# Altium footprint library Trans_pcb.PcbLib: 72 footprints (part 3 of 5)
Each footprint in its own frame and in the unit in brackets; x right, y up, seen from the top. Pads: shape width x height; smd on the part's side, far side on the other; paste and mask are expansions set on the pad; w line width, h text height; cw(c..) or ccw(c..) is an arc to the next point about the centre after c.
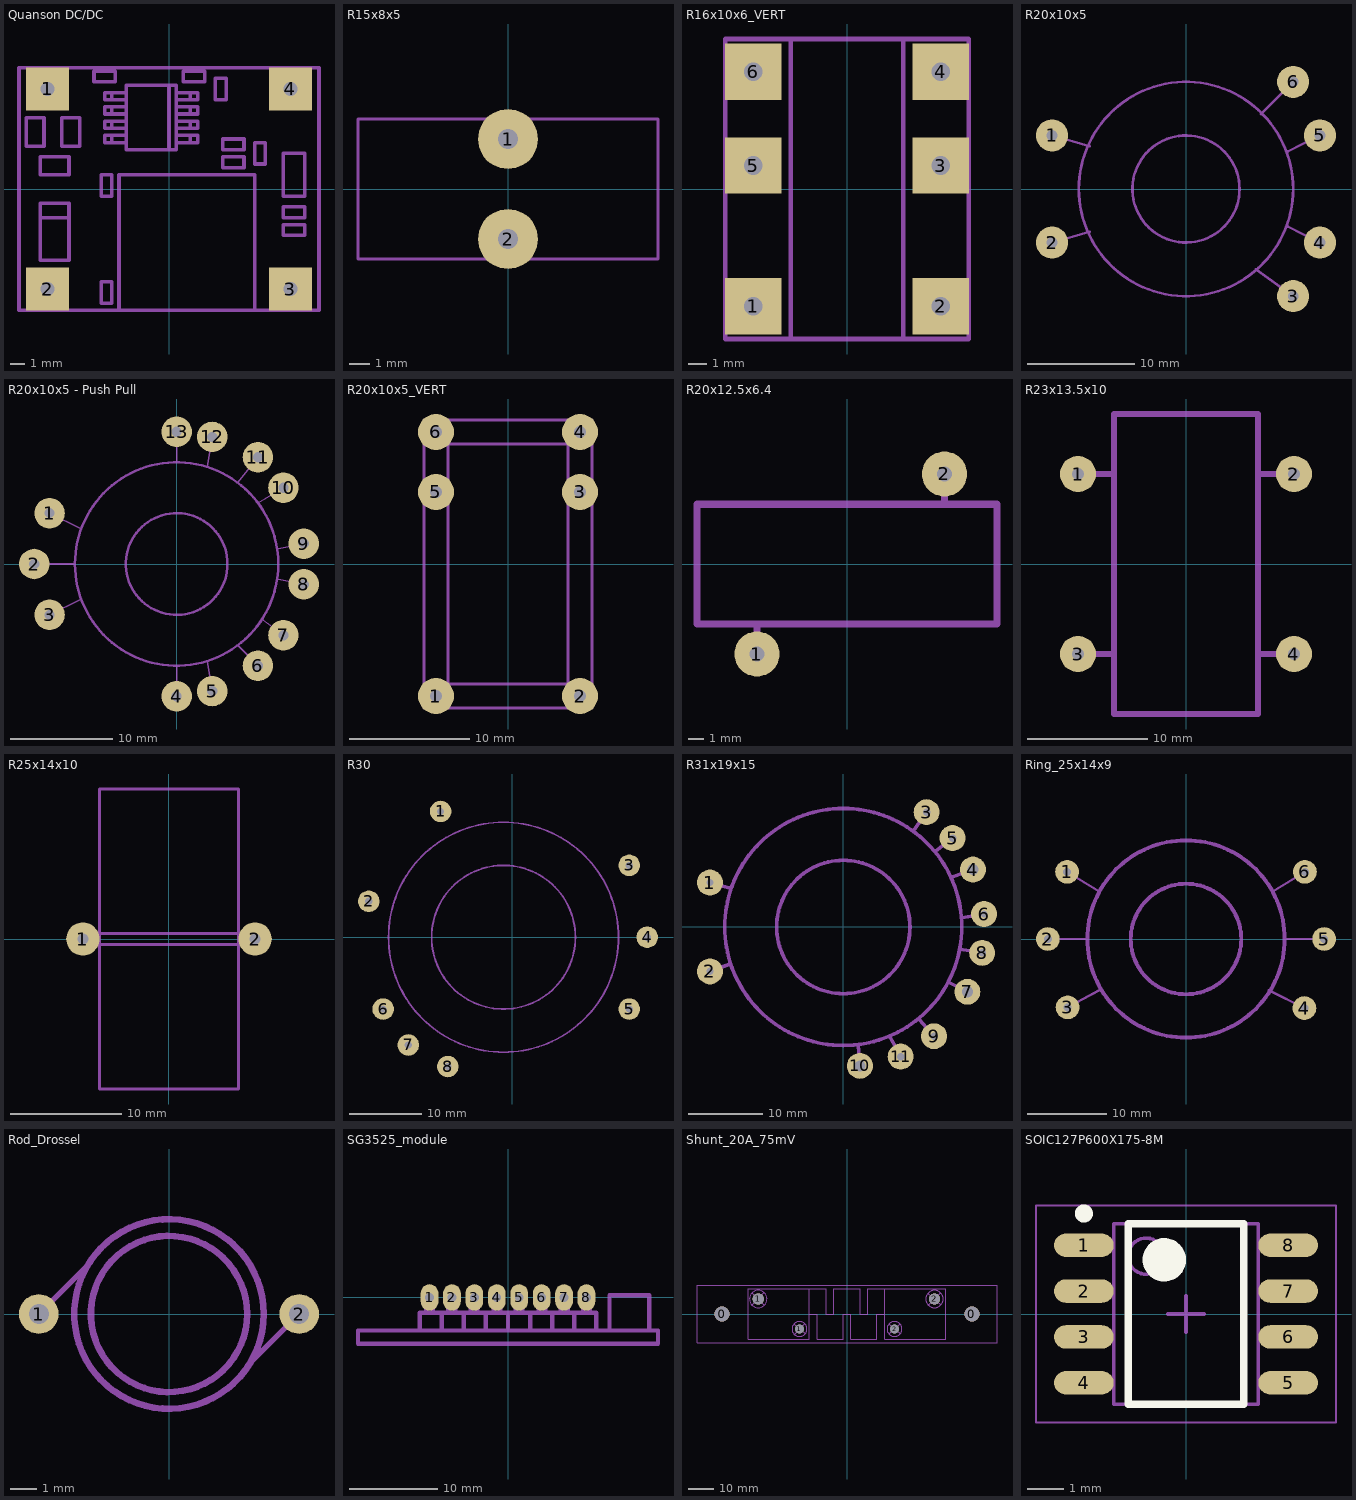
[diagram p2: the footprints below, top view; thin cyan lines are the x and y axes]

## Quanson DC/DC [mm]
pads (4):
  rect 3x3 hole 1 unplated: 1(-8.5,7) 2(-8.5,-7) 3(8.5,-7) 4(8.5,7)
Mechanical 13:
  lines w0.25: -9,-2 -7,-2 ; -4,3.25 -4,3.75 ; -4,4.25 -4,4.75 ; -4,5.25 -4,5.75 ; -4,6.25 -4,6.75 ; -3,3.25 -4.5,3.25 -4.5,3.75 -3,3.75 ; -3,4.25 -4.5,4.25 -4.5,4.75 -3,4.75 ; -3,5.25 -4.5,5.25 -4.5,5.75 -3,5.75 ; -3,6.25 -4.5,6.25 -4.5,6.75 -3,6.75 ; 0,2.75 0,7.25 ; 0.5,3.25 2,3.25 2,3.75 0.5,3.75 ; 0.5,4.25 2,4.25 2,4.75 0.5,4.75 ; 0.5,5.25 2,5.25 2,5.75 0.5,5.75 ; 0.5,6.25 2,6.25 2,6.75 0.5,6.75 ; 1.5,3.25 1.5,3.75 ; 1.5,4.25 1.5,4.75 ; 1.5,5.25 1.5,5.75 ; 1.5,6.25 1.5,6.75 ; -10.5,-8.5 -10.5,8.5 10.5,8.5 10.5,-8.5 -10.5,-8.5 ; -10,3 -10,5 -8.75,5 -8.75,3 -10,3 ; -9,-5 -9,-1 -7,-1 -7,-5 -9,-5 ; -9,1 -7,1 -7,2.25 -9,2.25 -9,1 ; -7.5,3 -7.5,5 -6.25,5 -6.25,3 -7.5,3 ; -5.25,7.5 -3.75,7.5 -3.75,8.25 -5.25,8.25 -5.25,7.5 ; -4.75,-8 -4.75,-6.5 -4,-6.5 -4,-8 -4.75,-8 ; -4.75,-0.5 -4.75,1 -4,1 -4,-0.5 -4.75,-0.5 ; -3.5,-8.5 6,-8.5 6,1 -3.5,1 -3.5,-8.5 ; -3,2.75 -3,7.25 0.5,7.25 0.5,2.75 -3,2.75 ; 1,7.5 2.5,7.5 2.5,8.25 1,8.25 1,7.5 ; 3.25,6.25 3.25,7.75 4,7.75 4,6.25 3.25,6.25 ; 3.75,1.5 3.75,2.25 5.25,2.25 5.25,1.5 3.75,1.5 ; 3.75,2.75 5.25,2.75 5.25,3.5 3.75,3.5 3.75,2.75 ; 6,1.75 6,3.25 6.75,3.25 6.75,1.75 6,1.75 ; 8,-3.25 8,-2.5 9.5,-2.5 9.5,-3.25 8,-3.25 ; 8,-2 9.5,-2 9.5,-1.25 8,-1.25 8,-2 ; 8,-0.5 9.5,-0.5 9.5,2.5 8,2.5 8,-0.5

## R15x8x5 [mm]
height 17
pads (2):
  round 3 hole 1: 1(0,2.5) 2(0,-2.5)
Mechanical 13:
  lines w0.15: -7.5,-3.5 -7.5,3.5 7.5,3.5 7.5,-3.5 -7.5,-3.5

## R16x10x6_VERT [mm]
height 20
pads (6):
  rect 3x3 hole 1: 1(-5,-6.25) 2(5,-6.25) 3(5,1.25) 4(5,6.25) 5(-5,1.25) 6(-5,6.25)
Mechanical 13:
  lines w0.25: -6.5,-8 6.5,-8 6.5,8 -6.5,8 -6.5,-8 ; -3,-8 -3,8 3,8 3,-8 -3,-8

## R20x10x5 [mm]
height 5
pads (6):
  round 3 hole 1 unplated: 1(-12.5,5) 2(-12.5,-5) 3(10,-10) 4(12.5,-5) 5(12.5,5) 6(10,10)
Mechanical 13:
  circle w0.25: c0,0 r10
  circle w0.25: c0,0 r5
  lines w0.25: -12.5,-5 -9,-4 ; -12.5,5 -9,4 ; 6.5,-7.5 10,-10 ; 7,7 10,10 ; 9.5,-3.5 12.5,-5 ; 9.5,3.5 12.5,5

## R20x10x5 - Push Pull [mm]
height 6
pads (13):
  round 3 hole 1 unplated: 1(-12.5,5) 2(-14,0) 3(-12.5,-5) 4(0,-13) 5(3.5,-12.5) 6(8,-10) 7(10.5,-7) 8(12.5,-2) 9(12.5,2) 10(10.5,7.5) 11(8,10.5) 12(3.5,12.5) 13(0,13)
Mechanical 13:
  circle w0.25: c0,0 r10
  circle w0.25: c0,0 r5
  lines w0.15: -14,0 -10,0 ; -12.5,-5 -9.5,-3.5 ; -12.5,5 -9.5,3.5 ; 0,-13 0,-10 ; 0,10 0,13 ; 3,-9.5 3.5,-12.5 ; 3,9.5 3.5,12.5 ; 6,-8 8,-10 ; 6,8 8,10.5 ; 8,6 10.5,7.5 ; 8.5,-5.5 10.5,-7 ; 10,-1.5 12.5,-2 ; 10,1.5 12.5,2

## R20x10x5_VERT [mm]
height 23
pads (6):
  round 3 hole 1: 1(-6,-11) 2(6,-11) 3(6,6) 4(6,11) 5(-6,6) 6(-6,11)
Mechanical 13:
  lines w0.25: -7,-12 -7,12 7,12 7,-12 -7,-12 ; -5,-10 5,-10 5,10 -5,10 -5,-10

## R20x12.5x6.4 [mm]
height 22
pads (2):
  round 3 hole 1: 1(-6,-6) 2(6.5,6)
Mechanical 13:
  lines w0.5: -6,-6 -6,-4 ; 6.5,4 6.5,6 ; -10,-4 10,-4 10,4 -10,4 -10,-4

## R23x13.5x10 [mm]
height 25
pads (4):
  round 3 hole 1: 1(-9,7.5) 2(9,7.5) 3(-9,-7.5) 4(9,-7.5)
Mechanical 13:
  lines w0.5: -9,-7.5 -6,-7.5 ; -9,7.5 -6.5,7.5 -6,7.5 ; 6,-7.5 9,-7.5 ; 6,7.5 9,7.5 ; -6,-12.5 -6,12.5 6,12.5 6,-12.5 -6,-12.5

## R25x14x10 [mm]
height 27
pads (2):
  round 3 hole 1 unplated: 1(-7.75,0) 2(7.75,0)
Mechanical 13:
  lines w0.25: -6.25,-0.5 6.25,-0.5 ; -6.25,0.5 6.25,0.5 ; -6.25,-13.5 6.25,-13.5 6.25,13.5 -6.25,13.5 -6.25,-13.5

## R30 [mm]
height 12
pads (8):
  round 3 hole 1 unplated: 1(-10,17.5) 2(-20,5) 3(16.25,10) 4(18.75,0) 5(16.25,-10) 6(-18,-10) 7(-14.5,-15) 8(-9,-18)
Mechanical 13:
  circle w0.25: c-1.25,0 r16
  circle w0.25: c-1.25,0 r10

## R31x19x15 [mm]
pads (11):
  round 3.5 hole 1 unplated: 1(-18,6) 2(-18,-6) 3(11.25,15.5) 5(14.75,12) 6(19,1.75) 8(18.75,-3.5)
  round 3.5 hole 1.5 unplated: 4(17.5,7.75) 7(16.75,-8.75)
  round 3.5 hole 1: 9(12.25,-14.75) 11(7.75,-17.5)
  round 3.5 hole 1.5: 10(2.25,-18.75)
Mechanical 13:
  circle w0.5: c0,0 r9
  circle w0.5: c0,0 r16
  lines w0.5: -18,-6 -15.25,-5 ; -18,6 -15.25,5.25 ; 2,-16 2.25,-18.75 ; 6.25,-14.75 7.75,-17.5 ; 9.5,13 11.25,15.5 ; 10.25,-12.5 12.25,-14.75 ; 12.5,10.25 14.75,12 ; 14.25,-7.5 16.75,-8.75 ; 14.75,6.75 17.5,7.75 ; 15.75,-3 18.75,-3.5 ; 16,1.25 19,1.75

## Ring_25x14x9 [mm]
height 11
pads (6):
  round 3 hole 1: 1(-15.063,8.5) 2(-17.5,0) 3(-15,-8.654) 4(15,-8.75) 5(17.5,0) 6(15.063,8.5)
Mechanical 13:
  circle w0.5: c0,0 r7
  circle w0.5: c0,0 r12.5
  lines w0.3: -17.5,0 -12.5,0 ; -15.144,-8.732 -11,-6.5 ; -15.063,8.5 -11,6 ; 10.5,-6.5 15.1,-8.8 ; 11,6 15.063,8.5 ; 12.5,0 17.5,0

## Rod_Drossel [mil]
height 984.25
pads (2):
  round 60 hole 30: 1(-196.85,0) 2(196.85,0)
Mechanical 13:
  circle w10: c0,0 r143.31
  circle w10: c0,0 r118.11
  lines w7.87: -196.85,0 -118.11,78.74 ; 118.11,-78.74 196.85,0

## SG3525_module [mm]
height 28
pads (8):
  oval 2x3 hole 1: 1(-8.89,0) 2(-6.35,0) 3(-3.81,0) 4(-1.27,0) 5(1.27,0) 6(3.81,0) 7(6.35,0) 8(8.89,0)
Mechanical 13:
  lines w0.5: -10,-3.75 -10,-1.75 10,-1.75 10,-3.75 ; -9.25,-1.75 -9.25,0.25 -8.5,0.25 -8.5,-1.75 ; -7.5,-3.75 -7.5,-1.75 ; -6.75,-1.75 -6.75,0.25 -6,0.25 -6,-1.75 ; -5,-3.75 -5,-1.75 ; -4.25,-1.75 -4.25,0.25 -3.5,0.25 -3.5,-1.75 ; -2.5,-3.75 -2.5,-1.75 ; -1.625,-1.75 -1.625,0.25 -0.875,0.25 -0.875,-1.75 ; 0,-3.75 0,-1.75 ; 0.875,-1.75 0.875,0.25 1.625,0.25 1.625,-1.75 ; 2.5,-3.75 2.5,-1.75 ; 3.5,-1.75 3.5,0.25 4.25,0.25 4.25,-1.75 ; 5,-3.75 5,-1.75 ; 6,-1.75 6,0.25 6.75,0.25 6.75,-1.75 ; 7.5,-3.5 7.5,-1.75 ; 8.5,-1.75 8.5,0.25 9.25,0.25 9.25,-1.75 ; 11.5,-3.75 11.5,0.25 16,0.25 16,-3.75 ; -17,-5.25 17,-5.25 17,-3.75 -17,-3.75 -17,-5.25

## Shunt_20A_75mV [mm]
pads (6):
  round 6 hole 6 unplated: 0(-50,0) 0(50,0)
  round 4.5 hole 4.5 unplated: 1(-35.5,6) 2(35,6)
  round 3.5 hole 3.5 unplated: 1(-19,-6) 2(19,-6)
Mechanical 13:
  circle w0.5: c-35.5,6 r3.5
  circle w0.5: c35,6 r3.5
  circle w0.5: c-19,-6 r3
  circle w0.5: c19,-6 r3
  lines w0.5: -38,3.5 -33.25,8.5 ; -38,8.5 -33,3.5 ; -21.25,-4 -17,-7.75 ; -21,-8.25 -17,-4 ; -15,0 -12,0 -12,-10 -1.5,-10 -1.5,0 1.5,0 1.5,-10 12,-10 12,0 15,0 ; 16.75,-4 21.25,-8 ; 17,-8 21.25,-4 ; 32.25,8.25 37.5,3.75 ; 32.5,3.5 37.5,8.5 ; -15,10 -39.5,10 -39.5,-10 -15,-10 -15,10 ; -15,10 -8.25,10 -8.25,0 -5.25,0 -5.25,10 5.25,10 5.25,0 8.25,0 8.25,10 15,10 ; 15,10 39.5,10 39.5,-10 15,-10 15,10 ; -60,-11.5 -60,11.5 60,11.5 60,-11.5 -60,-11.5

## SOIC127P600X175-8M [mm] "SOIC, 8-Leads, Body 4,90x3,90mm, Pitch 1,27mm, IPC Low Density"
height 1.75
pads (8):
  oval 1.65x0.65 smd: 1(-2.825,1.905) 2(-2.825,0.635) 3(-2.825,-0.635) 4(-2.825,-1.905) 5(2.825,-1.905) 6(2.825,-0.635) 7(2.825,0.635) 8(2.825,1.905)
Top Overlay:
  circle w0.6: c-0.6,1.5 r0.3
  circle w0.25: c-2.825,2.78 r0.125
  lines w0.2: -1.6,-2.5 1.6,-2.5 1.6,2.5 -1.6,2.5 -1.6,-2.5
Mechanical 13:
  circle w0.1: c-1.1,1.6 r0.5
  lines w0.1: -2,-2.5 2,-2.5 2,2.5 -2,2.5 -2,-2.5
Mechanical 15:
  lines w0.05: -4.15,-3 4.15,-3 4.15,3 -4.15,3 -4.15,-3
  lines w0.1: -0.5,0 0.5,0 ; 0,-0.5 0,0.5
3D body: height 1.75, standoff 0.1, extent -2,-2.5 2,2.5